# EAGLE library part HMC8073 (library Analog Devices)
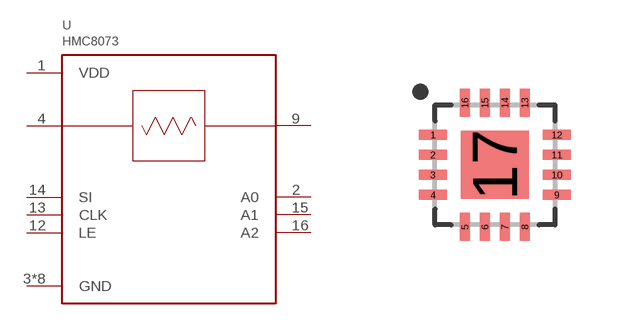
[diagram p33: symbol with the pads of LFCSP16; footprint LFCSP16]

Designator prefix U

## HMC8073  [LFCSP16]
1  VDD
2  A0
3  GND
4  RFIN
5  GND
6  GND
7  GND
8  GND
9  RFOUT
10  GND
11  GND
12  LE
13  CLK
14  SI
15  A1
16  A2
17  GND

## Footprint LFCSP16 (pad centres in mm)
smd 0.7 x 0.25: 1 -1.55,0.75; 2 -1.55,0.25; 3 -1.55,-0.25; 4 -1.55,-0.75; 9 1.55,-0.75; 10 1.55,-0.25; 11 1.55,0.25; 12 1.55,0.75
smd 0.25 x 0.7: 5 -0.75,-1.55; 6 -0.25,-1.55; 7 0.25,-1.55; 8 0.75,-1.55; 13 0.75,1.55; 14 0.25,1.55; 15 -0.25,1.55; 16 -0.75,1.55
smd 1.7 x 1.7: 17 0,0